# Altium footprint library PcbLib1.PcbLib: 37 footprints (part 1 of 3)
Each footprint in its own frame and in the unit in brackets; x right, y up, seen from the top. Pads: shape width x height; smd on the part's side, far side on the other; paste and mask are expansions set on the pad; w line width, h text height; cw(c..) or ccw(c..) is an arc to the next point about the centre after c.
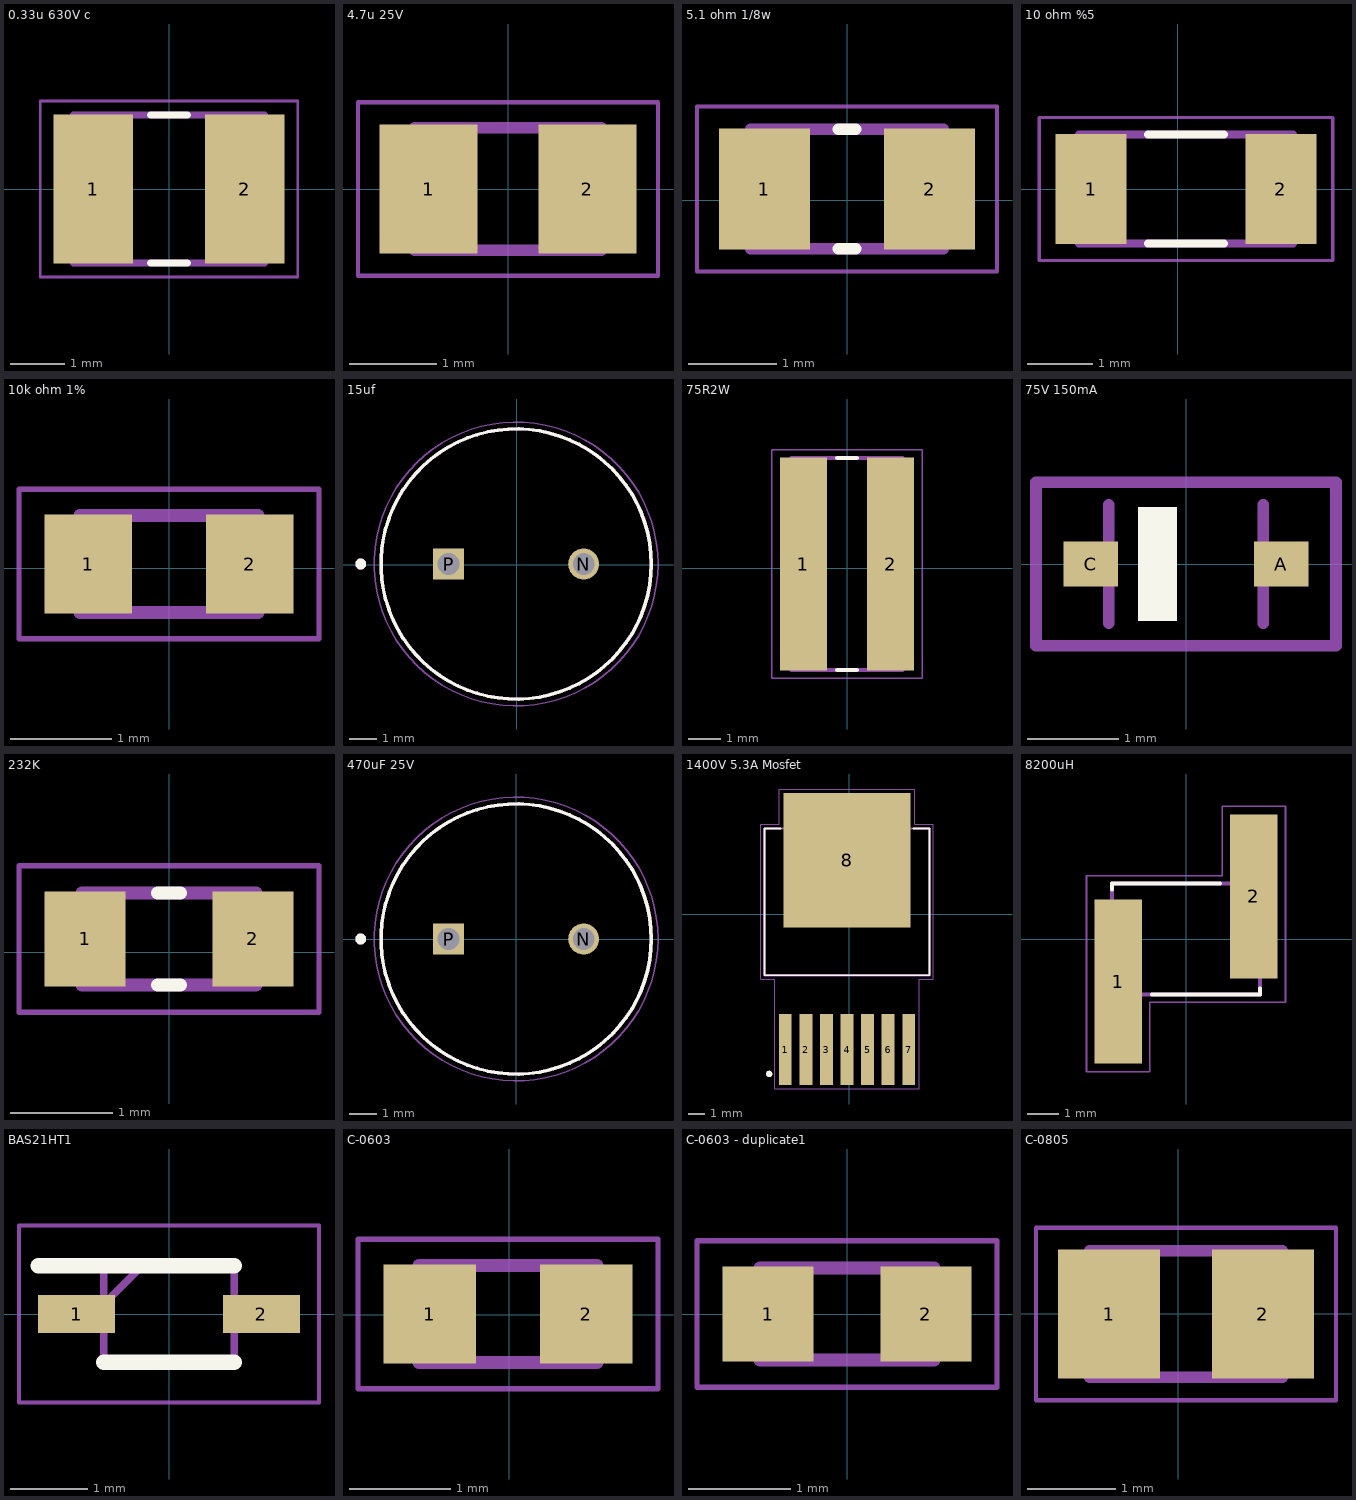
[diagram p0: the footprints below, top view; thin cyan lines are the x and y axes]

## 0.33u 630V c [mm]
pads (2):
  rect 1.45x2.72 smd: 1(-1.382,0) 2(1.382,0)
Top Overlay:
  lines w0.127: -0.34,-1.35 0.34,-1.35 ; -0.34,1.35 0.34,1.35
Mechanical 13:
  lines w0.127: -1.75,-1.35 -1.75,1.35 1.75,1.35 1.75,-1.35 -1.75,-1.35
Mechanical 15:
  lines w0.05: -2.355,-1.608 -2.355,1.608 2.355,1.608 2.355,-1.608 -2.355,-1.608

## 4.7u 25V [mm]
pads (2):
  rect 1.12x1.48 smd: 1(-0.907,0) 2(0.907,0)
Mechanical 13:
  lines w0.127: -1.07,-0.7 1.07,-0.7 1.07,0.7 -1.07,0.7 -1.07,-0.7
Mechanical 15:
  lines w0.05: -1.715,-0.99 1.715,-0.99 1.715,0.99 -1.715,0.99 -1.715,-0.99

## 5.1 ohm 1/8w [mm]
pads (2):
  rect 1.04x1.38 smd: 1(-0.94,0.127) 2(0.94,0.127)
Top Overlay:
  lines w0.127: -0.1,-0.553 0.1,-0.553 ; -0.1,0.807 0.1,0.807
Mechanical 13:
  lines w0.127: -1.1,-0.553 1.1,-0.553 1.1,0.807 -1.1,0.807 -1.1,-0.553
Mechanical 15:
  lines w0.05: -1.708,-0.813 1.708,-0.813 1.708,1.067 -1.708,1.067 -1.708,-0.813

## 10 ohm %5 [mm]
pads (2):
  rect 1.08x1.68 smd: 1(-1.318,0) 2(1.572,0)
Top Overlay:
  lines w0.127: -0.453,-0.83 0.707,-0.83 ; -0.453,0.83 0.707,0.83
Mechanical 13:
  lines w0.127: -1.503,-0.83 -1.503,0.83 1.757,0.83 1.757,-0.83 -1.503,-0.83
Mechanical 15:
  lines w0.05: -2.11,-1.09 -2.11,1.09 2.364,1.09 2.364,-1.09 -2.11,-1.09

## 10k ohm 1% [mm]
pads (2):
  rect 0.87x0.98 smd: 1(-0.802,0.044) 2(0.798,0.044)
Mechanical 13:
  lines w0.127: -0.882,-0.436 -0.882,0.524 0.878,0.524 0.878,-0.436 -0.882,-0.436
Mechanical 15:
  lines w0.05: -1.487,-0.696 -1.487,0.784 1.483,0.784 1.483,-0.696 -1.487,-0.696
3D body "step_temp.STEP": height 0.55, standoff 0, extent -0.802,-0.356 0.798,0.444

## 15uf [mm]
pads (2):
  round 1.15 hole 0.8: N(2.482,0.023)
  rect 1.15x1.15 hole 0.8: P(-2.518,0.023)
Top Overlay:
  circle w0.127: c-0.018,0.023 r5
  circle w0.2: c-5.768,0.023 r0.1
Mechanical 13:
  circle w0.127: c-0.018,0.023 r5
  circle w0.2: c-5.768,0.023 r0.1
Mechanical 15:
  circle w0.05: c-0.018,0.023 r5.25

## 75R2W [mm]
pads (2):
  rect 1.44x6.52 smd: 1(-1.34,0.127) 2(1.34,0.127)
Top Overlay:
  lines w0.127: -0.3,-3.123 0.3,-3.123 ; -0.3,3.377 0.3,3.377
Mechanical 13:
  lines w0.127: -1.7,-3.123 1.7,-3.123 1.7,3.377 -1.7,3.377 -1.7,-3.123
Mechanical 15:
  lines w0.05: -2.308,-3.381 2.308,-3.381 2.308,3.635 -2.308,3.635 -2.308,-3.381

## 75V 150mA [mm]
pads (2):
  rect 0.6x0.5 smd: A(1.05,0) C(-1.05,0)
Top Overlay:
  region: -0.1,-0.625 -0.525,-0.625 -0.525,0.625 -0.1,0.625
Mechanical 13:
  lines w0.127: -0.85,-0.65 -0.85,0.65 ; 0.85,-0.65 0.85,0.65
Mechanical 15:
  lines w0.127: -1.65,-0.9 -1.65,0.9 1.65,0.9 1.65,-0.9 -1.65,-0.9

## 232K [mm]
pads (2):
  rect 0.79x0.93 smd: 1(-0.82,0.127) 2(0.82,0.127)
Top Overlay:
  lines w0.127: -0.11,-0.323 0.11,-0.323 ; -0.11,0.577 0.11,0.577
Mechanical 13:
  lines w0.127: -0.85,-0.323 -0.85,0.577 0.85,0.577 0.85,-0.323 -0.85,-0.323
Mechanical 15:
  lines w0.05: -1.465,-0.588 -1.465,0.842 1.465,0.842 1.465,-0.588 -1.465,-0.588

## 470uF 25V [mm]
pads (2):
  round 1.15 hole 0.8: N(2.5,0)
  rect 1.15x1.15 hole 0.8: P(-2.5,0)
Top Overlay:
  circle w0.2: c-5.75,0 r0.1
  circle w0.127: c0,0 r5
Mechanical 13:
  circle w0.2: c-5.75,0 r0.1
  circle w0.127: c0,0 r5
Mechanical 15:
  circle w0.05: c0,0 r5.25

## 1400V 5.3A Mosfet [mm]
pads (8):
  rect 0.79x4.37 smd: 1(-3.937,-8.354) 2(-2.667,-8.354) 3(-1.397,-8.354) 4(-0.127,-8.354) 5(1.143,-8.354) 6(2.413,-8.354) 7(3.683,-8.354)
  rect 7.84x8.29 smd: 8(-0.127,3.346)
Top Overlay:
  circle w0.2: c-4.937,-9.859 r0.1
  lines w0.12: -4.227,5.312 -5.217,5.312 -5.217,-3.763 4.963,-3.763 4.963,5.312 3.973,5.312
Mechanical 13:
  circle w0.2: c-3.937,-9.859 r0.1
  lines w0.127: -5.217,-3.763 4.963,-3.763 4.963,5.312 -5.217,5.312 -5.217,-3.763
Mechanical 15:
  lines w0.05: -5.467,-4.013 -4.582,-4.013 -4.582,-10.789 4.328,-10.789 4.328,-4.013 5.213,-4.013 5.213,5.562 4.043,5.562 4.043,7.741 -4.297,7.741 -4.297,5.562 -5.467,5.562 -5.467,-4.013

## 8200uH [mm]
pads (2):
  rect 1.5x5.2 smd: 1(-2.15,-1.35) 2(2.15,1.35)
Top Overlay:
  lines w0.127: -2.35,1.57 -2.35,1.75 1.08,1.75 ; -1.08,-1.75 2.35,-1.75 2.35,-1.57
Mechanical 13:
  lines w0.127: -2.35,-1.75 -2.35,1.75 2.35,1.75 2.35,-1.75 -2.35,-1.75
Mechanical 15:
  lines w0.05: -3.15,-4.2 -3.15,2 1.15,2 1.15,4.2 3.15,4.2 3.15,-2 -1.15,-2 -1.15,-4.2 -3.15,-4.2

## BAS21HT1 [mm]
pads (2):
  rect 1x0.5 smd: 1(-1.2,0) 2(1.2,0)
Top Overlay:
  lines w0.2: -1.7,0.625 0.85,0.625 ; -0.85,-0.625 0.85,-0.625
Mechanical 13:
  lines w0.05: -1.95,-1.15 -1.95,1.15 1.95,1.15 1.95,-1.15 -1.95,-1.15
  lines w0.1: -0.85,0.125 -0.35,0.625 ; -0.85,-0.625 -0.85,0.625 0.85,0.625 0.85,-0.625 -0.85,-0.625

## C-0603 [mm]
pads (2):
  rect 0.92x0.98 smd: 1(-0.787,0.005) 2(0.763,0.005)
Mechanical 13:
  lines w0.127: -0.892,-0.475 0.868,-0.475 0.868,0.485 -0.892,0.485 -0.892,-0.475
Mechanical 15:
  lines w0.05: -1.497,-0.735 1.473,-0.735 1.473,0.745 -1.497,0.745 -1.497,-0.735

## C-0603 - duplicate1 [mm]
pads (2):
  rect 0.89x0.93 smd: 1(-0.77,0) 2(0.77,0)
Mechanical 13:
  lines w0.127: -0.85,-0.45 0.85,-0.45 0.85,0.45 -0.85,0.45 -0.85,-0.45
Mechanical 15:
  lines w0.05: -1.465,-0.715 1.465,-0.715 1.465,0.715 -1.465,0.715 -1.465,-0.715

## C-0805 [mm]
pads (2):
  rect 1.16x1.47 smd: 1(-0.785,-0.006) 2(0.965,-0.006)
Mechanical 13:
  lines w0.127: -1.01,-0.726 -1.01,0.714 1.19,0.714 1.19,-0.726 -1.01,-0.726
Mechanical 15:
  lines w0.05: -1.618,-0.989 -1.618,0.977 1.798,0.977 1.798,-0.989 -1.618,-0.989